# Altium schematic symbol library 74HCT00.SchLib: 1 symbol
Pins are listed as number, name and electrical type; pins without a type are passive.

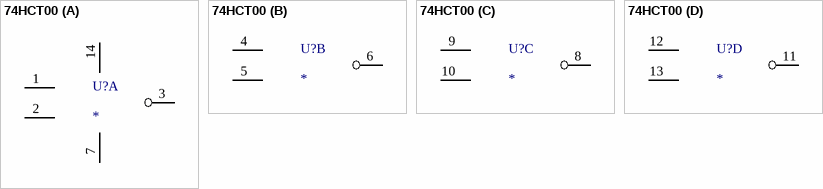
[diagram p0: symbol 74HCT00]

## 74HCT00
designator U?
part A pins: 1 A, 2 B, 3 Y, 7 GND (power), 14 VCC (power)
part B pins: 4 A, 5 B, 6 Y
part C pins: 8 Y, 9 A, 10 B
part D pins: 11 Y, 12 A, 13 B